# Altium footprint library RPI_CM4_3MM.PcbLib: 1 footprints
Each footprint in its own frame and in the unit in brackets; x right, y up, seen from the top. Pads: shape width x height; smd on the part's side, far side on the other; paste and mask are expansions set on the pad; w line width, h text height; cw(c..) or ccw(c..) is an arc to the next point about the centre after c.
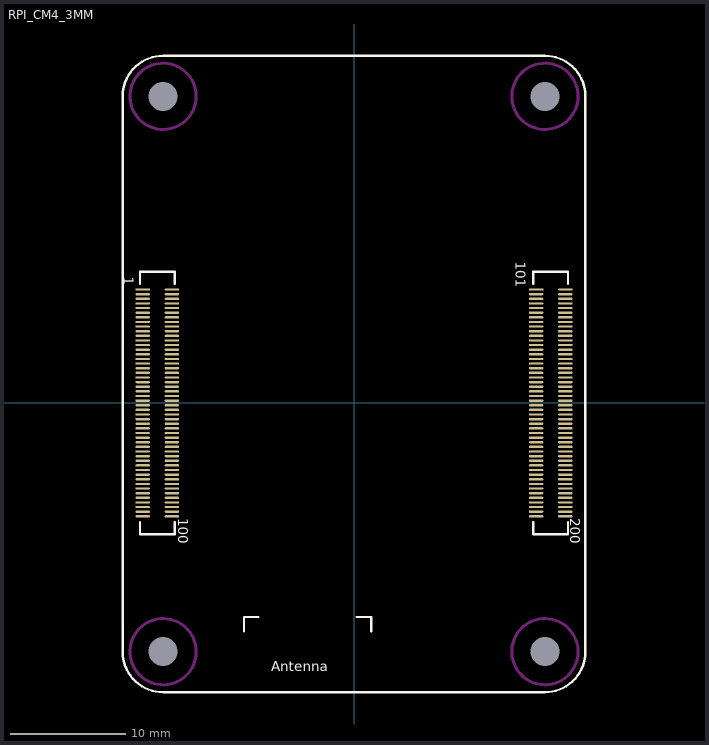
[diagram p0: the footprint, top view; thin cyan lines are the x and y axes]

## RPI_CM4_3MM [mm] "Raspberry Pi Compute Module 4, 3mm Height mezzanine connectors"
pads (204):
  round 0 hole 2.5 unplated: 0(-16.5,-21.5) 0(-16.5,26.5) 0(16.5,-21.5) 0(16.5,26.5)
  rect 1.25x0.2 smd mask+0.05: 1(-18.265,9.8) 101(15.735,9.8)
  oval 1.25x0.2 smd mask+0.05: 2(-15.735,9.8) 3(-18.265,9.4) 4(-15.735,9.4) 5(-18.265,9) 6(-15.735,9) 7(-18.265,8.6) 8(-15.735,8.6) 9(-18.265,8.2) 10(-15.735,8.2) 11(-18.265,7.8) 12(-15.735,7.8) 13(-18.265,7.4) 14(-15.735,7.4) 15(-18.265,7) 16(-15.735,7) 17(-18.265,6.6) 18(-15.735,6.6) 19(-18.265,6.2) 20(-15.735,6.2) 21(-18.265,5.8) 22(-15.735,5.8) 23(-18.265,5.4) 24(-15.735,5.4) 25(-18.265,5) 26(-15.735,5) 27(-18.265,4.6) 28(-15.735,4.6) 29(-18.265,4.2) 30(-15.735,4.2) 31(-18.265,3.8) 32(-15.735,3.8) 33(-18.265,3.4) 34(-15.735,3.4) 35(-18.265,3) 36(-15.735,3) 37(-18.265,2.6) 38(-15.735,2.6) 39(-18.265,2.2) 40(-15.735,2.2) 41(-18.265,1.8) 42(-15.735,1.8) 43(-18.265,1.4) 44(-15.735,1.4) 45(-18.265,1) 46(-15.735,1) 47(-18.265,0.6) 48(-15.735,0.6) 49(-18.265,0.2) 50(-15.735,0.2) 51(-18.265,-0.2) 52(-15.735,-0.2) 53(-18.265,-0.6) 54(-15.735,-0.6) 55(-18.265,-1) 56(-15.735,-1) 57(-18.265,-1.4) 58(-15.735,-1.4) 59(-18.265,-1.8) 60(-15.735,-1.8) 61(-18.265,-2.2) 62(-15.735,-2.2) 63(-18.265,-2.6) 64(-15.735,-2.6) 65(-18.265,-3) 66(-15.735,-3) 67(-18.265,-3.4) 68(-15.735,-3.4) 69(-18.265,-3.8) 70(-15.735,-3.8) 71(-18.265,-4.2) 72(-15.735,-4.2) 73(-18.265,-4.6) 74(-15.735,-4.6) 75(-18.265,-5) 76(-15.735,-5) 77(-18.265,-5.4) 78(-15.735,-5.4) 79(-18.265,-5.8) 80(-15.735,-5.8) 81(-18.265,-6.2) 82(-15.735,-6.2) 83(-18.265,-6.6) 84(-15.735,-6.6) 85(-18.265,-7) 86(-15.735,-7) 87(-18.265,-7.4) 88(-15.735,-7.4) 89(-18.265,-7.8) 90(-15.735,-7.8) 91(-18.265,-8.2) 92(-15.735,-8.2) 93(-18.265,-8.6) 94(-15.735,-8.6) 95(-18.265,-9) 96(-15.735,-9) 97(-18.265,-9.4) 98(-15.735,-9.4) 99(-18.265,-9.8) 100(-15.735,-9.8) 102(18.265,9.8) 103(15.735,9.4) 104(18.265,9.4) 105(15.735,9) 106(18.265,9) 107(15.735,8.6) 108(18.265,8.6) 109(15.735,8.2) 110(18.265,8.2) 111(15.735,7.8) 112(18.265,7.8) 113(15.735,7.4) 114(18.265,7.4) 115(15.735,7) 116(18.265,7) 117(15.735,6.6) 118(18.265,6.6) 119(15.735,6.2) 120(18.265,6.2) 121(15.735,5.8) 122(18.265,5.8) 123(15.735,5.4) 124(18.265,5.4) 125(15.735,5) 126(18.265,5) 127(15.735,4.6) 128(18.265,4.6) 129(15.735,4.2) 130(18.265,4.2) 131(15.735,3.8) 132(18.265,3.8) 133(15.735,3.4) 134(18.265,3.4) 135(15.735,3) 136(18.265,3) 137(15.735,2.6) 138(18.265,2.6) 139(15.735,2.2) 140(18.265,2.2) 141(15.735,1.8) 142(18.265,1.8) 143(15.735,1.4) 144(18.265,1.4) 145(15.735,1) 146(18.265,1) 147(15.735,0.6) 148(18.265,0.6) 149(15.735,0.2) 150(18.265,0.2) 151(15.735,-0.2) 152(18.265,-0.2) 153(15.735,-0.6) 154(18.265,-0.6) 155(15.735,-1) 156(18.265,-1) 157(15.735,-1.4) 158(18.265,-1.4) 159(15.735,-1.8) 160(18.265,-1.8) 161(15.735,-2.2) 162(18.265,-2.2) 163(15.735,-2.6) 164(18.265,-2.6) 165(15.735,-3) 166(18.265,-3) 167(15.735,-3.4) 168(18.265,-3.4) 169(15.735,-3.8) 170(18.265,-3.8) 171(15.735,-4.2) 172(18.265,-4.2) 173(15.735,-4.6) 174(18.265,-4.6) 175(15.735,-5) 176(18.265,-5) 177(15.735,-5.4) 178(18.265,-5.4) 179(15.735,-5.8) 180(18.265,-5.8) 181(15.735,-6.2) 182(18.265,-6.2) 183(15.735,-6.6) 184(18.265,-6.6) 185(15.735,-7) 186(18.265,-7) 187(15.735,-7.4) 188(18.265,-7.4) 189(15.735,-7.8) 190(18.265,-7.8) 191(15.735,-8.2) 192(18.265,-8.2) 193(15.735,-8.6) 194(18.265,-8.6) 195(15.735,-9) 196(18.265,-9) 197(15.735,-9.4) 198(18.265,-9.4) 199(15.735,-9.8) 200(18.265,-9.8)
Top Overlay:
  lines w0.2: -18.5,-10.3 -18.5,-11.35 -15.5,-11.35 -15.5,-10.3 ; -18.5,10.3 -18.5,11.35 -15.5,11.35 -15.5,10.3 ; -9.5,-19.75 -9.5,-18.5 -8.25,-18.5 ; 0.25,-18.5 1.5,-18.5 1.5,-19.75 ; 15.5,-10.3 15.5,-11.35 18.5,-11.35 18.5,-10.3 ; 15.5,10.3 15.5,11.35 18.5,11.35 18.5,10.3 ; -20,-21.5 ccw(c-16.5,-21.5) -16.5,-25 16.5,-25 ccw(c16.5,-21.5) 20,-21.5 20,26.5 ccw(c16.5,26.5) 16.5,30 -16.5,30 ccw(c-16.5,26.5) -20,26.5 -20,-21.5
  text "200" at 18.695,-9.987 h0.85
  text "101" at 13.995,12.192 h0.85
  text "100" at -15.205,-9.958 h0.85
  text "1" at -19.905,10.9 h0.85
  text "Antenna" at -7.146,-23.181 h0.85
Top Solder:
  circle w1.75: c16.5,-21.5 r2.125
  circle w1.75: c16.5,26.5 r2.125
  circle w1.75: c-16.5,26.5 r2.125
  circle w1.75: c-16.5,-21.5 r2.125
Bottom Solder:
  circle w1.75: c16.5,-21.5 r2.125
  circle w1.75: c16.5,26.5 r2.125
  circle w1.75: c-16.5,26.5 r2.125
  circle w1.75: c-16.5,-21.5 r2.125
Keep-Out Layer:
  circle w0.254: c-16.5,26.5 r2.862
  circle w0.254: c16.5,26.5 r2.862
  circle w0.254: c16.5,-21.5 r2.862
  circle w0.254: c-16.5,-21.5 r2.862
3D body "DF40HC(3.0)-100DS-0.4V.stp": height 2.89, standoff -0.01, extent 15.31,-11.305 18.69,11.295
3D body "DF40HC(3.0)-100DS-0.4V.stp": height 2.89, standoff -0.01, extent -18.69,-11.305 -15.31,11.295